# Altium footprint library GaN_Single_Bridge.PcbLib: 17 footprints (part 1 of 2)
Each footprint in its own frame and in the unit in brackets; x right, y up, seen from the top. Pads: shape width x height; smd on the part's side, far side on the other; paste and mask are expansions set on the pad; w line width, h text height; cw(c..) or ccw(c..) is an arc to the next point about the centre after c.
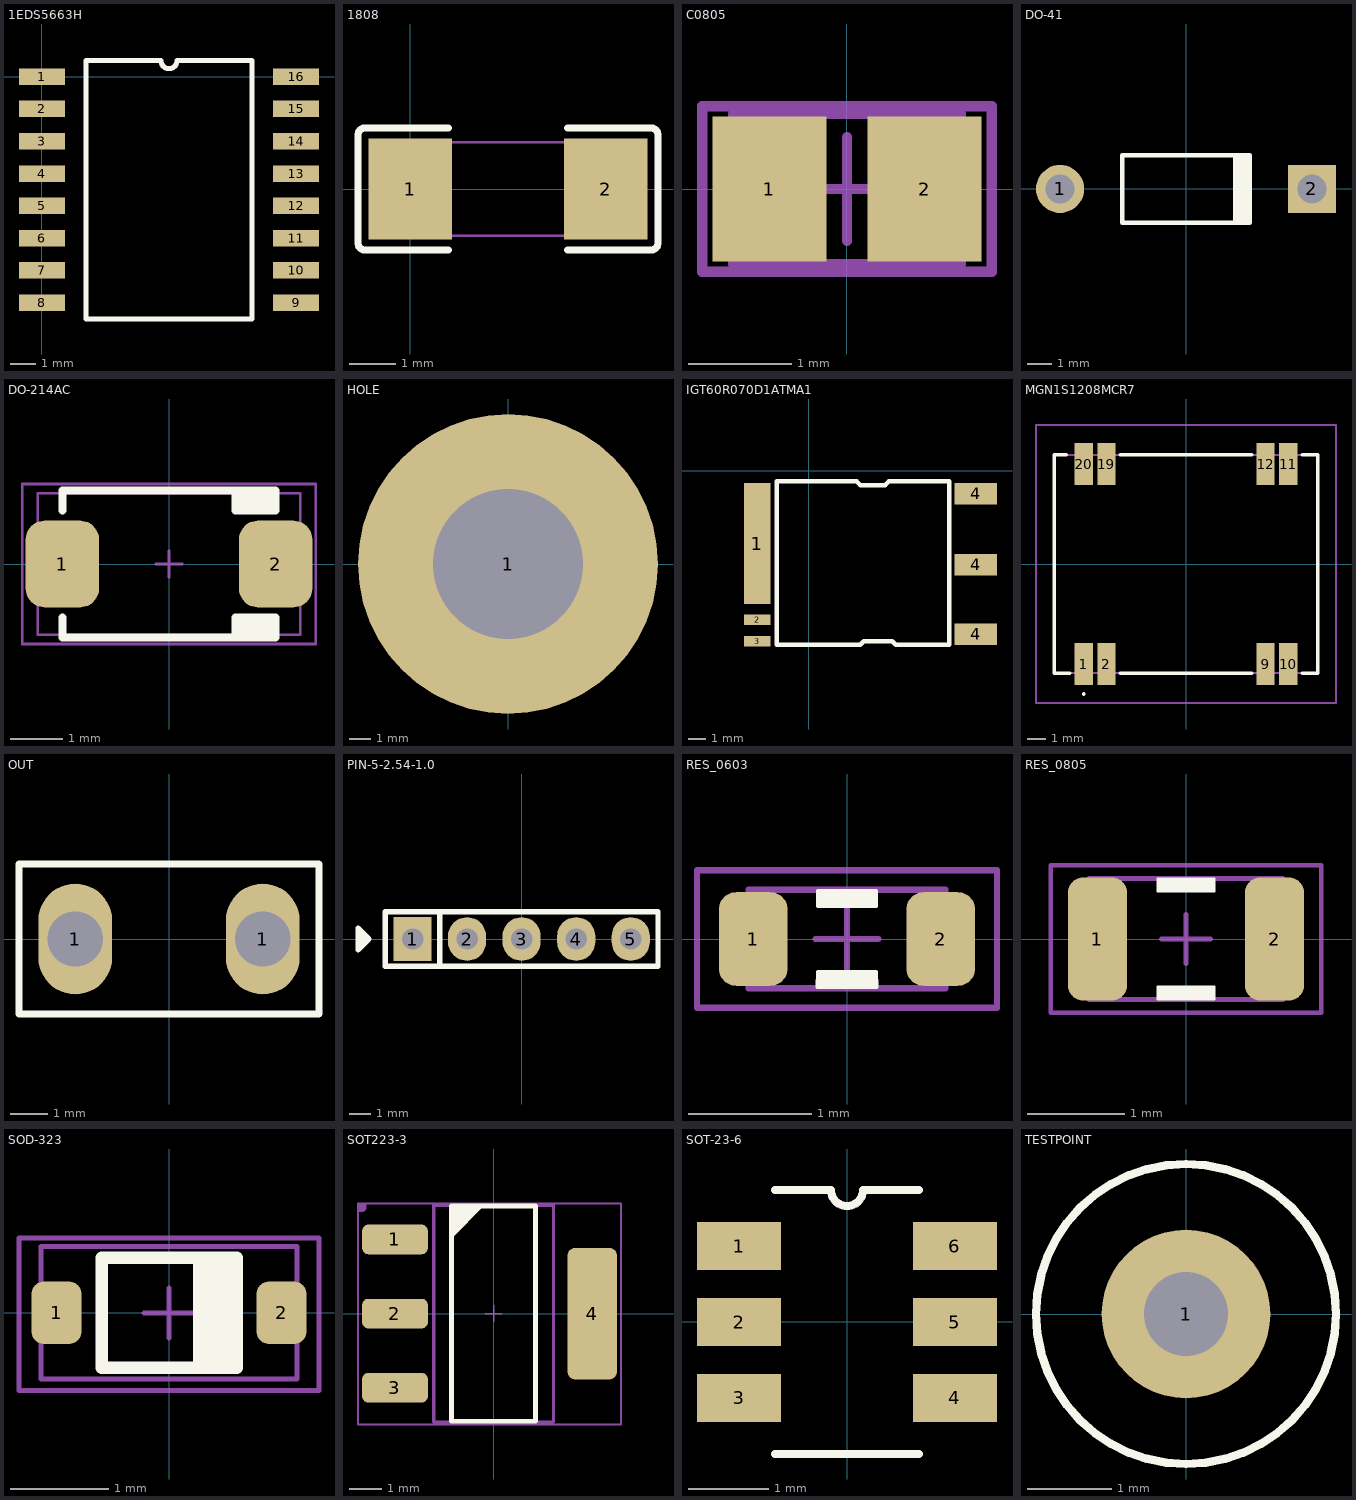
[diagram p0: the footprints below, top view; thin cyan lines are the x and y axes]

## 1EDS5663H [mm]
pads (16):
  rect 1.8x0.65 smd: 1(0,0) 2(0,-1.27) 3(0,-2.54) 4(0,-3.81) 5(0,-5.08) 6(0,-6.35) 7(0,-7.62) 8(0,-8.89) 9(10,-8.89) 10(10,-7.62) 11(10,-6.35) 12(10,-5.08) 13(10,-3.81) 14(10,-2.54) 15(10,-1.27) 16(10,0)
Top Overlay:
  lines w0.2: 1.735,-9.525 1.735,0.635 4.683,0.635 ccw(c5,0.635) 5.318,0.635 8.265,0.635 8.265,-9.525 1.735,-9.525
3D body "1EDS5663HXUMA1.stp": height 2.65, standoff 0, extent -0.324,-9.595 9.976,0.705

## 1808 [mm]
pads (2):
  rect 1.785x2.16 smd: 1(0,0) 2(4.185,0)
Top Overlay:
  lines w0.152: 0.816,-1.309 -0.969,-1.309 cw(c-0.969,-1.156) -1.121,-1.156 -1.121,1.156 cw(c-0.969,1.156) -0.969,1.309 0.816,1.309 ; 3.369,-1.309 5.154,-1.309 ccw(c5.154,-1.156) 5.306,-1.156 5.306,1.156 ccw(c5.154,1.156) 5.154,1.309 3.369,1.309
Mechanical 15:
  region: -0.098,-1 -0.098,-0.975 -0.133,-0.94 -0.182,-0.94 -0.218,-0.975 -0.218,-1 -0.218,-1.025 -0.182,-1.06 -0.133,-1.06 -0.098,-1.025
  region: 3.642,-1 4.342,-1 4.342,1 3.642,1
  region: -0.158,-1 0.542,-1 0.542,1 -0.158,1
  lines w0.051: -0.158,-1 4.342,-1 4.342,1 -0.158,1 -0.158,-1
3D body "1808HC331KAT1A.stp": height 2.2, standoff 0, extent -0.268,-1 4.332,1

## C0805 [mm] "Chip Capacitor, Body 2.0x1.3mm, IPC High Density"
height 1.4
pads (2):
  rect 1.1x1.4 smd: 1(-0.75,0) 2(0.75,0)
Mechanical 13:
  lines w0.1: -1.1,-0.725 -1.1,0.725 1.1,0.725 1.1,-0.725 -1.1,-0.725
Mechanical 15:
  lines w0.1: -0.5,0 0.5,0 ; 0,-0.5 0,0.5 ; -1.4,-0.8 -1.4,0.8 1.4,0.8 1.4,-0.8 -1.4,-0.8
3D body: height 1.4, standoff 0, extent -1.1,-0.725 1.1,0.725

## DO-41 [mm] "Diode, Axial; Body 5.2 x 2.7 mm (LxDia. max), Lead Dia. 0.86 mm (max)"
height 2.8
pads (2):
  round 2 hole 1.2: 1(-5.23,0)
  rect 2x2 hole 1.2: 2(5.23,0)
Top Overlay:
  rectangle: 1.95,-1.402 2.75,1.398
  lines w0.2: 2.65,-1.4 -2.65,-1.4 -2.65,1.4 2.65,1.4
3D body "1N4002..stp": height 2.8, standoff -2.8, extent -8.018,-1.397 8.382,1.383

## DO-214AC [mil] "SMA"
pads (2):
  rrect50% 55x65 smd: 1(-80,0) 2(80,0)
Top Overlay:
  region: 50,40 50,55 80,55 80,40
  region: 50,-40 50,-55 80,-55 80,-40
  lines w6: -80,-40 -80,-55 80,-55 80,-40 50,-40 50,-55 ; -80,40 -80,55 80,55 80,40 50,40 50,55
Mechanical 13:
  lines w2: -10.01,-0.01 9.99,-0.01 ; -0.01,-10.01 -0.01,9.99 ; -98.44,-53.16 98.41,-53.16 98.41,53.14 -98.44,53.14 -98.44,-53.16
Mechanical 14:
  lines w2: -110,-60 -110,60 110,60 110,-60 -110,-60
  text ".Designator" at -43,-28 h100
3D body "User Library-DO-214AC_SMA.STEP": height 84.69, standoff -1.97, extent -98.44,-53.16 98.41,53.14

## HOLE [mm]
pads (1):
  round 14 hole 7: 1(0,0)

## IGT60R070D1ATMA1 [mm]
pads (6):
  rect 1.5x6.8 smd: 1(-2.9,-4.1)
  rect 1.5x0.6 smd: 2(-2.9,-8.4) 3(-2.9,-9.6)
  rect 2.4x1.2 smd: 4(9.4,-9.2) 4(9.4,-5.3) 4(9.4,-1.3)
Top Overlay:
  lines w0.254: 2.7,-0.6 2.9,-0.8 4.3,-0.8 4.5,-0.6 7.9,-0.6 7.9,-9.8 4.9,-9.8 4.7,-9.6 3.1,-9.6 2.9,-9.8 -1.8,-9.8 -1.8,-0.6 2.7,-0.6 ; 2.7,-0.6 2.7,-0.6
3D body "IGT60R070D1ATMA1.stp": height 2.3, standoff 0, extent -2.916,-10.287 8.758,-0.387

## MGN1S1208MCR7 [mm]
pads (8):
  rect 1x2.3 smd: 1(-5.625,-5.5) 2(-4.375,-5.5) 9(4.375,-5.5) 10(5.625,-5.5) 11(5.625,5.5) 12(4.375,5.5) 19(-4.375,5.5) 20(-5.625,5.5)
Top Overlay:
  lines w0.1: -5.625,-7.2 cw(c-5.625,-7.15) -5.625,-7.1 cw(c-5.625,-7.15) -5.625,-7.2
  lines w0.2: -6.6,6 -7.25,6 -7.25,-6 -6.4,-6 ; -3.6,-6 3.6,-6 ; -3.6,6 3.6,6 ; 6.4,-6 7.25,-6 7.25,6 6.4,6
Mechanical 15:
  lines w0.1: -7.25,-6 -7.25,6 7.25,6 7.25,-6 -7.25,-6
Mechanical 20:
  lines w0.1: -8.25,-7.65 -8.25,7.65 8.25,7.65 8.25,-7.65 -8.25,-7.65
3D body "MGN1S1208MC-R7.stp": height 4.8, standoff 0, extent -7.25,-6 7.25,6

## OUT [mm]
pads (2):
  oval 2x3 hole 1.5: 1(-2.54,0) 1(2.54,0)
Top Overlay:
  lines w0.178: -4.064,-2.032 4.064,-2.032 4.064,2.032 -4.064,2.032 -4.064,-2.032
3D body "Faston_TAB_4.8x0.8x13.5.SLDPRT": height 10, standoff -3.8, extent -3.15,-0.4 3.15,0.4

## PIN-5-2.54-1.0 [mil] "Pin Header"
height 374.02
pads (5):
  rect 70x80 hole 39.37: 1(-200,0)
  oval 70x80 hole 39.37: 2(-100,0) 3(0,0) 4(100,0) 5(200,0)
Top Overlay:
  lines w10: -290,-10 -290,10 ; -150,-50 -150,50 ; -300,-20 -300,20 -280,0 -300,-20 ; -250,-50 250,-50 250,50 -250,50 -250,-50
3D body "PIN5_100mils.STEP": height 397.64, standoff -59.06, extent -250,-50 250,50

## RES_0603 [mil]
height 17.72
pads (2):
  rrect50% 22x30 smd: 1(-30,0) 2(30,0)
Top Overlay:
  region: 9.5,-15.5 -9.5,-15.5 -9.5,-10.5 9.5,-10.5
  region: -9.5,15.5 9.5,15.5 9.5,10.5 -9.5,10.5
  lines w1: -9.5,-15.5 -9.5,-10.5 9.5,-10.5 9.5,-15.5 -9.5,-15.5 ; -9.5,10.5 9.5,10.5 9.5,15.5 -9.5,15.5 -9.5,10.5
Mechanical 13:
  lines w2: -10,0 10,0 ; 0,-10 0,10 ; -31.5,-15.75 31.5,-15.75 31.5,15.75 -31.5,15.75 -31.5,-15.75
Mechanical 14:
  lines w2: -48,-22 -48,22 48,22 48,-22 -48,-22
  text ".Designator" at -25,-15 h60
3D body "RESC1608X05L.step": height 17.72, standoff 0, extent -31.49,-15.74 31.5,15.75

## RES_0805 [mil]
height 23.62
pads (2):
  rrect50% 24x50 smd: 1(-36,0) 2(36,0)
Top Overlay:
  region: -11.5,24.5 11.5,24.5 11.5,19.5 -11.5,19.5
  region: 11.5,-24.5 -11.5,-24.5 -11.5,-19.5 11.5,-19.5
  lines w1: -11.5,-24.5 -11.5,-19.5 11.5,-19.5 11.5,-24.5 -11.5,-24.5 ; -11.5,19.5 11.5,19.5 11.5,24.5 -11.5,24.5 -11.5,19.5
Mechanical 13:
  lines w2: -10,0 10,0 ; 0,-10 0,10 ; -39.37,-24.61 -39.37,24.61 39.37,24.61 39.37,-24.61 -39.37,-24.61
Mechanical 14:
  lines w2: -55,-30 55,-30 55,30 -55,30 -55,-30
  text ".Designator" at -31,-20 h80
3D body "RESC2012X06L.step": height 23.62, standoff 0, extent -39.37,-24.6 39.37,24.61

## SOD-323 [mil]
height 45.28
pads (2):
  rrect50% 20x25 smd: 1(-45,0) 2(45,0)
Top Overlay:
  region: 12,22 27,22 27,-22 12,-22
  lines w5: 12,-22 12,22 ; -27,-22 27,-22 27,22 -27,22 -27,-22
Mechanical 13:
  lines w2: -10,0 10,0 ; 0,-10 0,10 ; -51.18,-26.58 51.18,-26.58 51.18,26.58 -51.18,26.58 -51.18,-26.58
Mechanical 14:
  lines w2: -60,-31 -60,30 60,30 60,-31 -60,-31
  text ".Designator" at -34,-22 h80
3D body "SOD323.STEP": height 43.31, standoff 0, extent -51.18,-26.58 51.18,26.58

## SOT223-3 [mil]
height 70.87
pads (4):
  rrect40% 80x36 smd: 1(-120,90.16) 2(-120,0) 3(-120,-90.16)
  rrect30% 60x160 smd: 4(120,0)
Top Overlay:
  region: -51.18,131 -11.81,131 -51.18,91.63
  lines w6: -51.18,-131 51.18,-131 51.18,131 -51.18,131 -51.18,-131
Mechanical 13:
  lines w2: -10,0 10,0 ; 0,-10 0,10
  lines w3.94: -72.83,-131.89 72.83,-131.89 72.83,131.89 -72.83,131.89 -72.83,-131.89
Mechanical 14:
  region: -165,134 -155,134 -155,129 -155,128.01 -155.76,126.17 -157.17,124.76 -159.01,124 -160,124 -165,124
  lines w2: -165,-135 155,-135 155,134 -165,134 -165,-135
  text ".Designator" at -41,-25 h100
3D body "SOT223-4.STEP": height 70.87, standoff 0, extent -143.69,-131.9 143.71,131.88

## SOT-23-6 [mm] "Small Outline Transistor, 6 Pins, Pin Pitch  0.95mm"
height 1.45
pads (6):
  rect 1.05x0.6 smd mask+0.07: 1(-1.35,0.95) 2(-1.35,0) 3(-1.35,-0.95) 4(1.35,-0.95) 5(1.35,0) 6(1.35,0.95)
Top Overlay:
  lines w0.1: -0.9,-1.65 0.9,-1.65 ; -0.9,1.65 -0.2,1.65 ccw(c0,1.65) 0.2,1.65 0.9,1.65
3D body "SOT-23-6.SLDPRT": height 1.45, standoff 0, extent -1.4,-1.45 1.4,1.45

## TESTPOINT [mm]
pads (1):
  round 2 hole 1: 1(0,0)
Top Overlay:
  circle w0.1: c0,0 r1.778
3D body "Testpoint.SLDPRT": height 4.44, standoff -4.43, extent -1.584,-1.587 1.584,1.587